# EAGLE library part PWR_EFUSE_TPS25983 (library !GPLIB_ACTIVE)
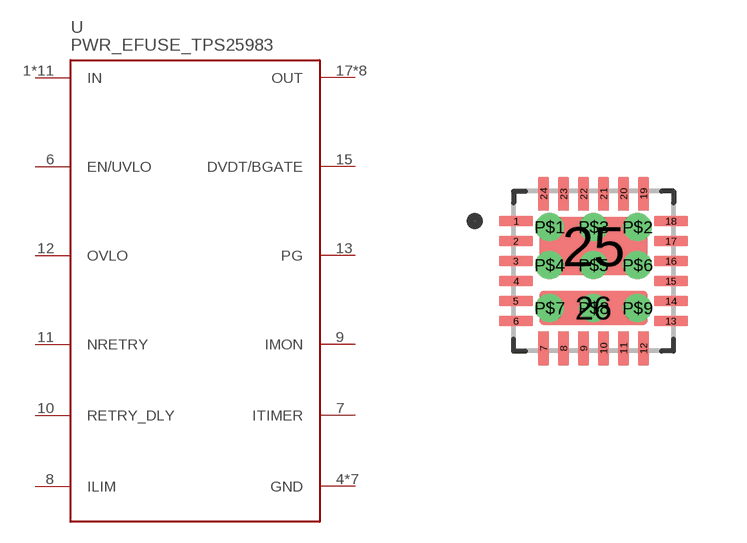
[diagram p69: symbol with the pads of QFN50P400X400X100-26N; footprint QFN50P400X400X100-26N]

Designator prefix U

## PWR_EFUSE_TPS25983_TPS259830LNRGER  [QFN50P400X400X100-26N]
1  IN  pwr
2  IN  pwr
3  IN  pwr
4  GND  pwr
5  GND  pwr
6  EN/UVLO  in
7  ITIMER  out
8  ILIM  out
9  IMON  out
10  RETRY_DLY  out
11  NRETRY  out
12  OVLO  in
13  PG
14  GND  pwr
15  DVDT/BGATE  out
16  IN  pwr
17  OUT  out
18  OUT  out
19  OUT  out
20  OUT  out
21  OUT  out
22  OUT  out
23  OUT  out
24  OUT  out
25  IN  pwr
26  GND  pwr
P$1  IN  pwr
P$2  IN  pwr
P$3  IN  pwr
P$4  IN  pwr
P$5  IN  pwr
P$6  IN  pwr
P$7  GND  pwr
P$8  GND  pwr
P$9  GND  pwr

## Footprint QFN50P400X400X100-26N (pad centres in mm)
smd 0.86 x 0.27: 1 -1.935,1.25; 2 -1.935,0.75; 3 -1.935,0.25; 4 -1.935,-0.25; 5 -1.935,-0.75; 6 -1.935,-1.25; 13 1.935,-1.25; 14 1.935,-0.75; 15 1.935,-0.25; 16 1.935,0.25; 17 1.935,0.75; 18 1.935,1.25
smd 0.27 x 0.86: 7 -1.25,-1.935; 8 -0.75,-1.935; 9 -0.25,-1.935; 10 0.25,-1.935; 11 0.75,-1.935; 12 1.25,-1.935; 19 1.25,1.935; 20 0.75,1.935; 21 0.25,1.935; 22 -0.25,1.935; 23 -0.75,1.935; 24 -1.25,1.935
smd 2.7 x 1.45: 25 0,0.625
smd 2.7 x 0.85: 26 0,-0.925
drill 0.2 pad 0.305: P$1 -1.1,1.1; P$2 1.1,1.1; P$3 0,1.1; P$4 -1.1,0.15; P$5 0,0.15; P$6 1.1,0.15; P$7 -1.1,-0.925; P$8 0,-0.925; P$9 1.1,-0.925